# Altium footprint library 0533981371.PcbLib: 1 footprints
Each footprint in its own frame and in the unit in brackets; x right, y up, seen from the top. Pads: shape width x height; smd on the part's side, far side on the other; paste and mask are expansions set on the pad; w line width, h text height; cw(c..) or ccw(c..) is an arc to the next point about the centre after c.
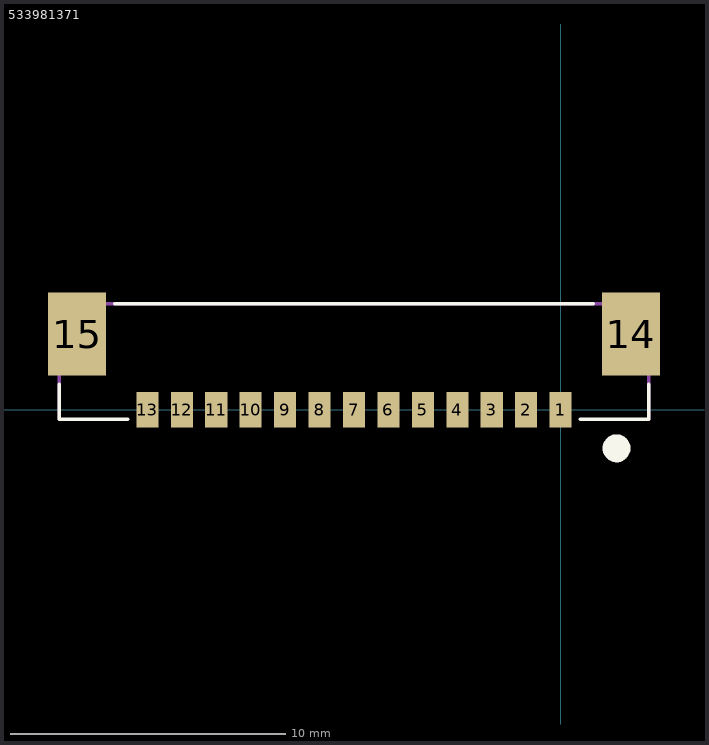
[diagram p0: the footprint, top view; thin cyan lines are the x and y axes]

## 533981371 [mm]
pads (15):
  rect 0.8x1.3 smd paste+0 mask+0.076: 1(0,0) 2(-1.25,0) 3(-2.5,0) 4(-3.75,0) 5(-5,0) 6(-6.25,0) 7(-7.5,0) 8(-8.75,0) 9(-10,0) 10(-11.25,0) 11(-12.5,0) 12(-13.75,0) 13(-15,0)
  rect 2.1x3 smd paste+0 mask+0.076: 14(2.55,2.75) 15(-17.55,2.75)
Top Overlay:
  circle w0.508: c2.032,-1.397 r0.254
  lines w0.127: -18.2,0.93 -18.2,-0.35 -15.72,-0.35 ; -16.18,3.85 1.18,3.85 ; 0.72,-0.35 3.2,-0.35 3.2,0.93
Mechanical 13:
  lines w0.127: -18.2,-0.35 -18.2,3.85 3.2,3.85 3.2,-0.35
3D body: height 0.25, standoff 0, extent 0,0 0.254,0.254